# Altium footprint library BRGTC6.PcbLib: 1 footprints
Each footprint in its own frame and in the unit in brackets; x right, y up, seen from the top. Pads: shape width x height; smd on the part's side, far side on the other; paste and mask are expansions set on the pad; w line width, h text height; cw(c..) or ccw(c..) is an arc to the next point about the centre after c.
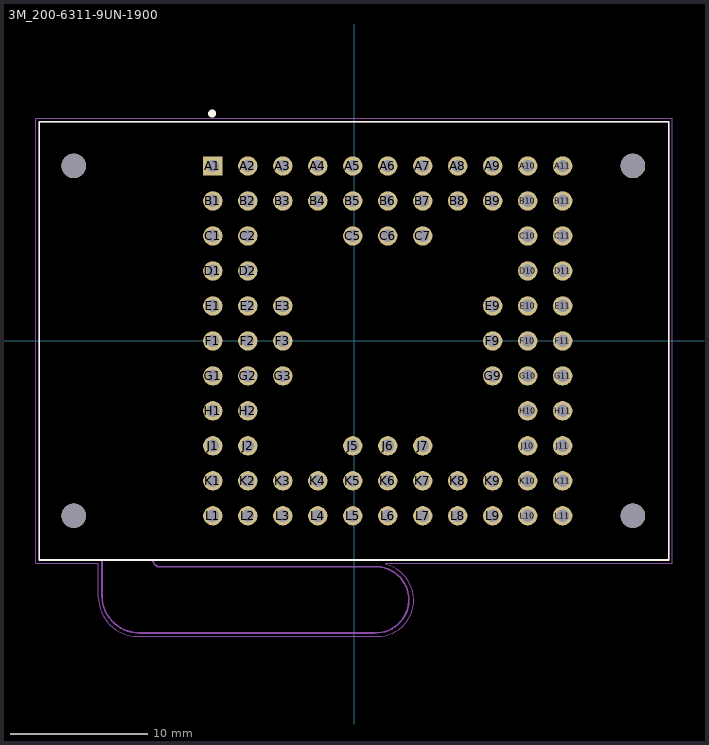
[diagram p0: the footprint, top view; thin cyan lines are the x and y axes]

## 3M_200-6311-9UN-1900 [mm]
pads (88):
  rect 1.408x1.408 hole 0.9: A1(-10.25,12.7)
  round 1.408 hole 0.9: A2(-7.71,12.7) A3(-5.17,12.7) A4(-2.63,12.7) A5(-0.09,12.7) A6(2.45,12.7) A7(4.99,12.7) A8(7.53,12.7) A9(10.07,12.7) A10(12.61,12.7) A11(15.15,12.7) B1(-10.25,10.16) B2(-7.71,10.16) B3(-5.17,10.16) B4(-2.63,10.16) B5(-0.09,10.16) B6(2.45,10.16) B7(4.99,10.16) B8(7.53,10.16) B9(10.07,10.16) B10(12.61,10.16) B11(15.15,10.16) C1(-10.25,7.62) C2(-7.71,7.62) C5(-0.09,7.62) C6(2.45,7.62) C7(4.99,7.62) C10(12.61,7.62) C11(15.15,7.62) D1(-10.25,5.08) D2(-7.71,5.08) D10(12.61,5.08) D11(15.15,5.08) E1(-10.25,2.54) E2(-7.71,2.54) E3(-5.17,2.54) E9(10.07,2.54) E10(12.61,2.54) E11(15.15,2.54) F1(-10.25,0) F2(-7.71,0) F3(-5.17,0) F9(10.07,0) F10(12.61,0) F11(15.15,0) G1(-10.25,-2.54) G2(-7.71,-2.54) G3(-5.17,-2.54) G9(10.07,-2.54) G10(12.61,-2.54) G11(15.15,-2.54) H1(-10.25,-5.08) H2(-7.71,-5.08) H10(12.61,-5.08) H11(15.15,-5.08) J1(-10.25,-7.62) J2(-7.71,-7.62) J5(-0.09,-7.62) J6(2.45,-7.62) J7(4.99,-7.62) J10(12.61,-7.62) J11(15.15,-7.62) K1(-10.25,-10.16) K2(-7.71,-10.16) K3(-5.17,-10.16) K4(-2.63,-10.16) K5(-0.09,-10.16) K6(2.45,-10.16) K7(4.99,-10.16) K8(7.53,-10.16) K9(10.07,-10.16) K10(12.61,-10.16) K11(15.15,-10.16) L1(-10.25,-12.7) L2(-7.71,-12.7) L3(-5.17,-12.7) L4(-2.63,-12.7) L5(-0.09,-12.7) L6(2.45,-12.7) L7(4.99,-12.7) L8(7.53,-12.7) L9(10.07,-12.7) L10(12.61,-12.7) L11(15.15,-12.7)
  round 1.78 hole 1.78 unplated: ""(-20.35,-12.7) ""(-20.35,12.7) ""(20.25,-12.7) ""(20.25,12.7)
Top Overlay:
  circle w0.3: c-10.3,16.5 r0.141
  lines w0.127: -22.85,-15.9 -22.85,15.9 22.85,15.9 22.85,-15.9 -22.85,-15.9
Mechanical 13:
  lines w0.127: 1.4,-16.4 -14.1,-16.4 cw(c-14.1,-15.9) -14.6,-15.9 ; 1.409,-16.399 cw(c1.576,-18.797) 1.492,-21.2 ; 1.5,-21.2 -15.6,-21.2 cw(c-15.6,-18.5) -18.3,-18.5 -18.3,-15.9 ; -18.3,-15.9 -14.6,-15.9 ; -18.3,-15.9 -22.85,-15.9 -22.85,15.9 22.85,15.9 22.85,-15.9 -14.6,-15.9
Mechanical 15:
  lines w0.05: 1.697,-21.45 ccw(c1.697,-18.809) 2.336,-16.246 ; 1.7,-21.45 -15.7,-21.45 cw(c-15.7,-18.6) -18.55,-18.6 -18.55,-16.15 -23.1,-16.15 -23.1,16.15 23.1,16.15 23.1,-16.15 2.35,-16.15 2.35,-16.25